# Altium footprint library LQFP0.50P16.0X16.0X1.4-128J.PcbLib: 3 footprints
Each footprint in its own frame and in the unit in brackets; x right, y up, seen from the top. Pads: shape width x height; smd on the part's side, far side on the other; paste and mask are expansions set on the pad; w line width, h text height; cw(c..) or ccw(c..) is an arc to the next point about the centre after c.
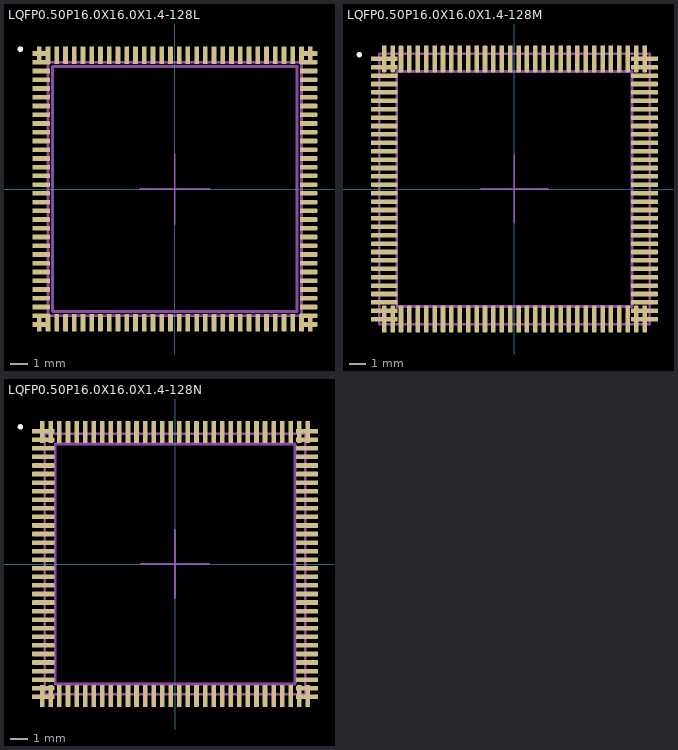
[diagram p0: the footprints below, top view; thin cyan lines are the x and y axes]

## LQFP0.50P16.0X16.0X1.4-128L [mm] "LQFP 128 14x14x1.4 mm"
height 1.4
pads (128):
  rrect25% 1x0.27 smd: 1(-7.65,7.75) 2(-7.65,7.25) 3(-7.65,6.75) 4(-7.65,6.25) 5(-7.65,5.75) 6(-7.65,5.25) 7(-7.65,4.75) 8(-7.65,4.25) 9(-7.65,3.75) 10(-7.65,3.25) 11(-7.65,2.75) 12(-7.65,2.25) 13(-7.65,1.75) 14(-7.65,1.25) 15(-7.65,0.75) 16(-7.65,0.25) 17(-7.65,-0.25) 18(-7.65,-0.75) 19(-7.65,-1.25) 20(-7.65,-1.75) 21(-7.65,-2.25) 22(-7.65,-2.75) 23(-7.65,-3.25) 24(-7.65,-3.75) 25(-7.65,-4.25) 26(-7.65,-4.75) 27(-7.65,-5.25) 28(-7.65,-5.75) 29(-7.65,-6.25) 30(-7.65,-6.75) 31(-7.65,-7.25) 32(-7.65,-7.75) 65(7.65,-7.75) 66(7.65,-7.25) 67(7.65,-6.75) 68(7.65,-6.25) 69(7.65,-5.75) 70(7.65,-5.25) 71(7.65,-4.75) 72(7.65,-4.25) 73(7.65,-3.75) 74(7.65,-3.25) 75(7.65,-2.75) 76(7.65,-2.25) 77(7.65,-1.75) 78(7.65,-1.25) 79(7.65,-0.75) 80(7.65,-0.25) 81(7.65,0.25) 82(7.65,0.75) 83(7.65,1.25) 84(7.65,1.75) 85(7.65,2.25) 86(7.65,2.75) 87(7.65,3.25) 88(7.65,3.75) 89(7.65,4.25) 90(7.65,4.75) 91(7.65,5.25) 92(7.65,5.75) 93(7.65,6.25) 94(7.65,6.75) 95(7.65,7.25) 96(7.65,7.75)
  rrect25% 0.27x1 smd: 33(-7.75,-7.65) 34(-7.25,-7.65) 35(-6.75,-7.65) 36(-6.25,-7.65) 37(-5.75,-7.65) 38(-5.25,-7.65) 39(-4.75,-7.65) 40(-4.25,-7.65) 41(-3.75,-7.65) 42(-3.25,-7.65) 43(-2.75,-7.65) 44(-2.25,-7.65) 45(-1.75,-7.65) 46(-1.25,-7.65) 47(-0.75,-7.65) 48(-0.25,-7.65) 49(0.25,-7.65) 50(0.75,-7.65) 51(1.25,-7.65) 52(1.75,-7.65) 53(2.25,-7.65) 54(2.75,-7.65) 55(3.25,-7.65) 56(3.75,-7.65) 57(4.25,-7.65) 58(4.75,-7.65) 59(5.25,-7.65) 60(5.75,-7.65) 61(6.25,-7.65) 62(6.75,-7.65) 63(7.25,-7.65) 64(7.75,-7.65) 97(7.75,7.65) 98(7.25,7.65) 99(6.75,7.65) 100(6.25,7.65) 101(5.75,7.65) 102(5.25,7.65) 103(4.75,7.65) 104(4.25,7.65) 105(3.75,7.65) 106(3.25,7.65) 107(2.75,7.65) 108(2.25,7.65) 109(1.75,7.65) 110(1.25,7.65) 111(0.75,7.65) 112(0.25,7.65) 113(-0.25,7.65) 114(-0.75,7.65) 115(-1.25,7.65) 116(-1.75,7.65) 117(-2.25,7.65) 118(-2.75,7.65) 119(-3.25,7.65) 120(-3.75,7.65) 121(-4.25,7.65) 122(-4.75,7.65) 123(-5.25,7.65) 124(-5.75,7.65) 125(-6.25,7.65) 126(-6.75,7.65) 127(-7.25,7.65) 128(-7.75,7.65)
Top Overlay:
  circle w0.16: c-8.83,8 r0.08
Top Component Center:
  lines w0.1: -2,0 2,0 ; 0,-2 0,2
Top Courtyard:
  lines w0.16: -7.25,-7.25 7.25,-7.25 7.25,7.25 -7.25,7.25 -7.25,-7.25
Top Assembly:
  lines w0.16: -7,-7 7,-7 7,7 -7,7 -7,-7
3D body "LQFP0.50P16.0X16.0X1.4-128L.STEP": height 1, standoff 0

## LQFP0.50P16.0X16.0X1.4-128M [mm] "LQFP 128 14x14x1.4 mm"
height 1.4
pads (128):
  rrect25% 1.6x0.27 smd: 1(-7.75,7.75) 2(-7.75,7.25) 3(-7.75,6.75) 4(-7.75,6.25) 5(-7.75,5.75) 6(-7.75,5.25) 7(-7.75,4.75) 8(-7.75,4.25) 9(-7.75,3.75) 10(-7.75,3.25) 11(-7.75,2.75) 12(-7.75,2.25) 13(-7.75,1.75) 14(-7.75,1.25) 15(-7.75,0.75) 16(-7.75,0.25) 17(-7.75,-0.25) 18(-7.75,-0.75) 19(-7.75,-1.25) 20(-7.75,-1.75) 21(-7.75,-2.25) 22(-7.75,-2.75) 23(-7.75,-3.25) 24(-7.75,-3.75) 25(-7.75,-4.25) 26(-7.75,-4.75) 27(-7.75,-5.25) 28(-7.75,-5.75) 29(-7.75,-6.25) 30(-7.75,-6.75) 31(-7.75,-7.25) 32(-7.75,-7.75) 65(7.75,-7.75) 66(7.75,-7.25) 67(7.75,-6.75) 68(7.75,-6.25) 69(7.75,-5.75) 70(7.75,-5.25) 71(7.75,-4.75) 72(7.75,-4.25) 73(7.75,-3.75) 74(7.75,-3.25) 75(7.75,-2.75) 76(7.75,-2.25) 77(7.75,-1.75) 78(7.75,-1.25) 79(7.75,-0.75) 80(7.75,-0.25) 81(7.75,0.25) 82(7.75,0.75) 83(7.75,1.25) 84(7.75,1.75) 85(7.75,2.25) 86(7.75,2.75) 87(7.75,3.25) 88(7.75,3.75) 89(7.75,4.25) 90(7.75,4.75) 91(7.75,5.25) 92(7.75,5.75) 93(7.75,6.25) 94(7.75,6.75) 95(7.75,7.25) 96(7.75,7.75)
  rrect25% 0.27x1.6 smd: 33(-7.75,-7.75) 34(-7.25,-7.75) 35(-6.75,-7.75) 36(-6.25,-7.75) 37(-5.75,-7.75) 38(-5.25,-7.75) 39(-4.75,-7.75) 40(-4.25,-7.75) 41(-3.75,-7.75) 42(-3.25,-7.75) 43(-2.75,-7.75) 44(-2.25,-7.75) 45(-1.75,-7.75) 46(-1.25,-7.75) 47(-0.75,-7.75) 48(-0.25,-7.75) 49(0.25,-7.75) 50(0.75,-7.75) 51(1.25,-7.75) 52(1.75,-7.75) 53(2.25,-7.75) 54(2.75,-7.75) 55(3.25,-7.75) 56(3.75,-7.75) 57(4.25,-7.75) 58(4.75,-7.75) 59(5.25,-7.75) 60(5.75,-7.75) 61(6.25,-7.75) 62(6.75,-7.75) 63(7.25,-7.75) 64(7.75,-7.75) 97(7.75,7.75) 98(7.25,7.75) 99(6.75,7.75) 100(6.25,7.75) 101(5.75,7.75) 102(5.25,7.75) 103(4.75,7.75) 104(4.25,7.75) 105(3.75,7.75) 106(3.25,7.75) 107(2.75,7.75) 108(2.25,7.75) 109(1.75,7.75) 110(1.25,7.75) 111(0.75,7.75) 112(0.25,7.75) 113(-0.25,7.75) 114(-0.75,7.75) 115(-1.25,7.75) 116(-1.75,7.75) 117(-2.25,7.75) 118(-2.75,7.75) 119(-3.25,7.75) 120(-3.75,7.75) 121(-4.25,7.75) 122(-4.75,7.75) 123(-5.25,7.75) 124(-5.75,7.75) 125(-6.25,7.75) 126(-6.75,7.75) 127(-7.25,7.75) 128(-7.75,7.75)
Top Overlay:
  circle w0.16: c-9.23,8 r0.08
Top Component Center:
  lines w0.1: -2,0 2,0 ; 0,-2 0,2
Top Courtyard:
  lines w0.16: -8.05,-8.05 8.05,-8.05 8.05,8.05 -8.05,8.05 -8.05,-8.05
Top Assembly:
  lines w0.16: -7,-7 7,-7 7,7 -7,7 -7,-7
3D body "LQFP0.50P16.0X16.0X1.4-128M.STEP": height 1, standoff 0

## LQFP0.50P16.0X16.0X1.4-128N [mm] "LQFP 128 14x14x1.4 mm"
height 1.4
pads (128):
  rrect25% 1.3x0.27 smd: 1(-7.7,7.75) 2(-7.7,7.25) 3(-7.7,6.75) 4(-7.7,6.25) 5(-7.7,5.75) 6(-7.7,5.25) 7(-7.7,4.75) 8(-7.7,4.25) 9(-7.7,3.75) 10(-7.7,3.25) 11(-7.7,2.75) 12(-7.7,2.25) 13(-7.7,1.75) 14(-7.7,1.25) 15(-7.7,0.75) 16(-7.7,0.25) 17(-7.7,-0.25) 18(-7.7,-0.75) 19(-7.7,-1.25) 20(-7.7,-1.75) 21(-7.7,-2.25) 22(-7.7,-2.75) 23(-7.7,-3.25) 24(-7.7,-3.75) 25(-7.7,-4.25) 26(-7.7,-4.75) 27(-7.7,-5.25) 28(-7.7,-5.75) 29(-7.7,-6.25) 30(-7.7,-6.75) 31(-7.7,-7.25) 32(-7.7,-7.75) 65(7.7,-7.75) 66(7.7,-7.25) 67(7.7,-6.75) 68(7.7,-6.25) 69(7.7,-5.75) 70(7.7,-5.25) 71(7.7,-4.75) 72(7.7,-4.25) 73(7.7,-3.75) 74(7.7,-3.25) 75(7.7,-2.75) 76(7.7,-2.25) 77(7.7,-1.75) 78(7.7,-1.25) 79(7.7,-0.75) 80(7.7,-0.25) 81(7.7,0.25) 82(7.7,0.75) 83(7.7,1.25) 84(7.7,1.75) 85(7.7,2.25) 86(7.7,2.75) 87(7.7,3.25) 88(7.7,3.75) 89(7.7,4.25) 90(7.7,4.75) 91(7.7,5.25) 92(7.7,5.75) 93(7.7,6.25) 94(7.7,6.75) 95(7.7,7.25) 96(7.7,7.75)
  rrect25% 0.27x1.3 smd: 33(-7.75,-7.7) 34(-7.25,-7.7) 35(-6.75,-7.7) 36(-6.25,-7.7) 37(-5.75,-7.7) 38(-5.25,-7.7) 39(-4.75,-7.7) 40(-4.25,-7.7) 41(-3.75,-7.7) 42(-3.25,-7.7) 43(-2.75,-7.7) 44(-2.25,-7.7) 45(-1.75,-7.7) 46(-1.25,-7.7) 47(-0.75,-7.7) 48(-0.25,-7.7) 49(0.25,-7.7) 50(0.75,-7.7) 51(1.25,-7.7) 52(1.75,-7.7) 53(2.25,-7.7) 54(2.75,-7.7) 55(3.25,-7.7) 56(3.75,-7.7) 57(4.25,-7.7) 58(4.75,-7.7) 59(5.25,-7.7) 60(5.75,-7.7) 61(6.25,-7.7) 62(6.75,-7.7) 63(7.25,-7.7) 64(7.75,-7.7) 97(7.75,7.7) 98(7.25,7.7) 99(6.75,7.7) 100(6.25,7.7) 101(5.75,7.7) 102(5.25,7.7) 103(4.75,7.7) 104(4.25,7.7) 105(3.75,7.7) 106(3.25,7.7) 107(2.75,7.7) 108(2.25,7.7) 109(1.75,7.7) 110(1.25,7.7) 111(0.75,7.7) 112(0.25,7.7) 113(-0.25,7.7) 114(-0.75,7.7) 115(-1.25,7.7) 116(-1.75,7.7) 117(-2.25,7.7) 118(-2.75,7.7) 119(-3.25,7.7) 120(-3.75,7.7) 121(-4.25,7.7) 122(-4.75,7.7) 123(-5.25,7.7) 124(-5.75,7.7) 125(-6.25,7.7) 126(-6.75,7.7) 127(-7.25,7.7) 128(-7.75,7.7)
Top Overlay:
  circle w0.16: c-9.03,8 r0.08
Top Component Center:
  lines w0.1: -2,0 2,0 ; 0,-2 0,2
Top Courtyard:
  lines w0.16: -7.6,-7.6 7.6,-7.6 7.6,7.6 -7.6,7.6 -7.6,-7.6
Top Assembly:
  lines w0.16: -7,-7 7,-7 7,7 -7,7 -7,-7
3D body "LQFP0.50P16.0X16.0X1.4-128N.STEP": height 1, standoff 0